# Altium schematic symbol library WE-BAL.SchLib: 8 symbols
Pins are listed as number, name and electrical type; pins without a type are passive.

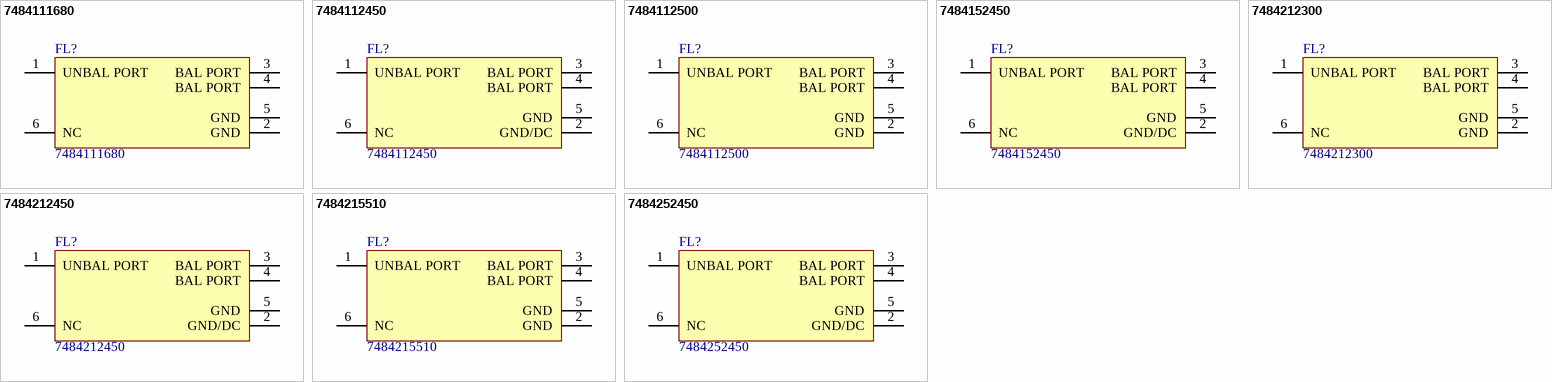
[diagram p0: symbols 7484111680 to 7484252450]

## 7484111680
designator FL?
WE-BAL Multilayer Chip Balun, SMT, size 0603, 673 - 2700MHz; Manufacturer: Wurth Elektronik; Case/Size Code: 0603; Balanced Impedance: 100Ω; Insertion Loss: 1.7dB; Unbalanced Impedance: 50Ω; VSWR: 2.45; Manufacturer Part Number: 7484111680; Category: Baluns; Match Code: WE-BAL; ComponentLink1Description: Website Link; ComponentLink1URL: https://www.we-online.com/redexpert/article/7484111680?ad; ComponentLink2Description: Datasheet Link; ComponentLink2URL: https://www.we-online.com/redexpert/spec/7484111680?ad; Mount: Surface Mount; Min Operating Temperature: -40°C; Max Operating Temperature: 85°C; Packaging: Tape and Reel; Length: 1.6mm; Width: 0.8mm; Height: 0.7mm; Frequency Range: 673 - 2700MHz
footprint 7484111680 (Multilayer Chip Balun)
pins: 1 UNBAL PORT, 2 GND (power), 3 BAL PORT, 4 BAL PORT, 5 GND (power), 6 NC

## 7484112450
designator FL?
WE-BAL Multilayer Chip Balun, SMT, size 0603, 2400 - 2500MHz; Manufacturer: Wurth Elektronik; Case/Size Code: 0603; Balanced Impedance: 100Ω; Insertion Loss: 1.2dB; Unbalanced Impedance: 50Ω; VSWR: 2; Manufacturer Part Number: 7484112450; Category: Baluns; Match Code: WE-BAL; ComponentLink1Description: Website Link; ComponentLink1URL: https://www.we-online.com/redexpert/article/7484112450?ad; ComponentLink2Description: Datasheet Link; ComponentLink2URL: https://www.we-online.com/redexpert/spec/7484112450?ad; Mount: Surface Mount; Min Operating Temperature: -40°C; Max Operating Temperature: 85°C; Packaging: Tape and Reel; Length: 1.6mm; Width: 0.8mm; Height: 0.7mm; Frequency Range: 2400 - 2500MHz
footprint 7484112450 (Multilayer Chip Balun)
pins: 1 UNBAL PORT, 2 GND/DC (power), 3 BAL PORT, 4 BAL PORT, 5 GND (power), 6 NC

## 7484112500
designator FL?
WE-BAL Multilayer Chip Balun, SMT, size 0603, 2300 - 2700MHz; Manufacturer: Wurth Elektronik; Case/Size Code: 0603; Balanced Impedance: 100Ω; Insertion Loss: 0.55dB; Unbalanced Impedance: 50Ω; VSWR: 1.7; Manufacturer Part Number: 7484112500; Category: Baluns; Match Code: WE-BAL; ComponentLink1Description: Website Link; ComponentLink1URL: https://www.we-online.com/redexpert/article/7484112500?ad; ComponentLink2Description: Datasheet Link; ComponentLink2URL: https://www.we-online.com/redexpert/spec/7484112500?ad; Mount: Surface Mount; Min Operating Temperature: -40°C; Max Operating Temperature: 85°C; Packaging: Tape and Reel; Length: 1.6mm; Width: 0.8mm; Height: 0.4mm; Frequency Range: 2300 - 2700MHz
footprint 7484112500 (Multilayer Chip Balun)
pins: 1 UNBAL PORT, 2 GND (power), 3 BAL PORT, 4 BAL PORT, 5 GND (power), 6 NC

## 7484152450
designator FL?
WE-BAL Multilayer Chip Balun, SMT, size 0603, 2400 - 2500MHz; Manufacturer: Wurth Elektronik; Case/Size Code: 0603; Balanced Impedance: 50Ω; Insertion Loss: 1.2dB; VSWR: 2; Manufacturer Part Number: 7484152450; Category: Baluns; Match Code: WE-BAL; ComponentLink1Description: Website Link; ComponentLink1URL: https://www.we-online.com/redexpert/article/7484152450?ad; ComponentLink2Description: Datasheet Link; ComponentLink2URL: https://www.we-online.com/redexpert/spec/7484152450?ad; Mount: Surface Mount; Min Operating Temperature: -40°C; Max Operating Temperature: 85°C; Packaging: Tape and Reel; Length: 1.6mm; Width: 0.8mm; Height: 0.5mm; Frequency Range: 2400 - 2500MHz; Unbalanced Impedance: 50Ω
footprint 7484152450 (Multilayer Chip Balun)
pins: 1 UNBAL PORT, 2 GND/DC (power), 3 BAL PORT, 4 BAL PORT, 5 GND (power), 6 NC

## 7484212300
designator FL?
WE-BAL Multilayer Chip Balun, SMT, size 0805, 1500 - 3100MHz; Manufacturer: Wurth Elektronik; Case/Size Code: 0805; Balanced Impedance: 100Ω; Insertion Loss: 1dB; Unbalanced Impedance: 50Ω; VSWR: 2; Manufacturer Part Number: 7484212300; Category: Baluns; Match Code: WE-BAL; ComponentLink1Description: Website Link; ComponentLink1URL: https://www.we-online.com/redexpert/article/7484212300?ad; ComponentLink2Description: Datasheet Link; ComponentLink2URL: https://www.we-online.com/redexpert/spec/7484212300?ad; Mount: Surface Mount; Min Operating Temperature: -40°C; Max Operating Temperature: 85°C; Packaging: Tape and Reel; Length: 2mm; Width: 1.25mm; Height: 0.9mm; Frequency Range: 1500 - 3100MHz
footprint 7484212300 (Multilayer Chip Balun)
pins: 1 UNBAL PORT, 2 GND (power), 3 BAL PORT, 4 BAL PORT, 5 GND (power), 6 NC

## 7484212450
designator FL?
WE-BAL Multilayer Chip Balun, SMT, size 0805, 2400 - 2500MHz; Manufacturer: Wurth Elektronik; Case/Size Code: 0805; Balanced Impedance: 100Ω; Insertion Loss: 1dB; Unbalanced Impedance: 50Ω; VSWR: 2; Manufacturer Part Number: 7484212450; Category: Baluns; Match Code: WE-BAL; ComponentLink1Description: Website Link; ComponentLink1URL: https://www.we-online.com/redexpert/article/7484212450?ad; ComponentLink2Description: Datasheet Link; ComponentLink2URL: https://www.we-online.com/redexpert/spec/7484212450?ad; Mount: Surface Mount; Min Operating Temperature: -40°C; Max Operating Temperature: 85°C; Packaging: Tape and Reel; Length: 2mm; Width: 1.25mm; Height: 0.95mm; Frequency Range: 2400 - 2500MHz
footprint 7484212450 (Multilayer Chip Balun)
pins: 1 UNBAL PORT, 2 GND/DC (power), 3 BAL PORT, 4 BAL PORT, 5 GND (power), 6 NC

## 7484215510
designator FL?
WE-BAL Multilayer Chip Balun, SMT, size 0805, 4900 - 5900MHz; Manufacturer: Wurth Elektronik; Case/Size Code: 0805; Balanced Impedance: 100Ω; Insertion Loss: 1.2dB; Unbalanced Impedance: 50Ω; VSWR: 1.7; Manufacturer Part Number: 7484215510; Category: Baluns; Match Code: WE-BAL; ComponentLink1Description: Website Link; ComponentLink1URL: https://www.we-online.com/redexpert/article/7484215510?ad; ComponentLink2Description: Datasheet Link; ComponentLink2URL: https://www.we-online.com/redexpert/spec/7484215510?ad; Mount: Surface Mount; Min Operating Temperature: -40°C; Max Operating Temperature: 85°C; Packaging: Tape and Reel; Length: 2mm; Width: 1.25mm; Height: 0.95mm; Frequency Range: 4900 - 5900MHz
footprint 7484215510 (Multilayer Chip Balun)
pins: 1 UNBAL PORT, 2 GND (power), 3 BAL PORT, 4 BAL PORT, 5 GND (power), 6 NC

## 7484252450
designator FL?
WE-BAL Multilayer Chip Balun, SMT, size 0805, 2400 - 2500MHz; Manufacturer: Wurth Elektronik; Case/Size Code: 0805; Balanced Impedance: 50Ω; Insertion Loss: 1.2dB; VSWR: 1.7; Manufacturer Part Number: 7484252450; Category: Baluns; Match Code: WE-BAL; ComponentLink1Description: Website Link; ComponentLink1URL: https://www.we-online.com/redexpert/article/7484252450?ad; ComponentLink2Description: Datasheet Link; ComponentLink2URL: https://www.we-online.com/redexpert/spec/7484252450?ad; Mount: Surface Mount; Min Operating Temperature: -40°C; Max Operating Temperature: 85°C; Packaging: Tape and Reel; Length: 2mm; Width: 1.25mm; Height: 0.95mm; Frequency Range: 2400 - 2500MHz; Unbalanced Impedance: 50Ω
footprint 7484252450 (Multilayer Chip Balun)
pins: 1 UNBAL PORT, 2 GND/DC (power), 3 BAL PORT, 4 BAL PORT, 5 GND (power), 6 NC